# EAGLE library part NC7SZ157 (library signpost)
MUX
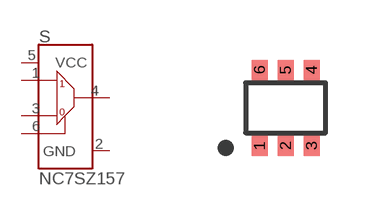
[diagram p16: symbol with the pads of SC70-6; footprint SC70-6]

Designator prefix S

## NC7SZ157 (DIGIKEY: NC7SZ157P6XCT-ND)  [SC70-6]
1  I1
2  GND
3  I0
4  Z
5  VCC
6  S

## Footprint SC70-6 (pad centres in mm)
smd 0.4 x 0.5: 1 -0.65,-0.95; 2 0,-0.95; 3 0.65,-0.95; 4 0.65,0.95; 5 0,0.95; 6 -0.65,0.95